# EAGLE library part HEADER_2X5 (library QFN32)
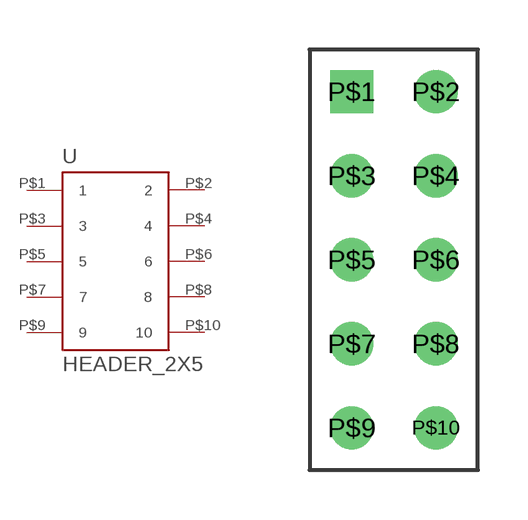
[diagram p1: symbol with the pads of HDR_2X5; footprint HDR_2X5]

Designator prefix -

## HEADER_2X5  [HDR_2X5]
P$1  1
P$2  2
P$3  3
P$4  4
P$5  5
P$6  6
P$7  7
P$8  8
P$9  9
P$10  10

## Footprint HDR_2X5 (pad centres in mm)
drill 0.8 square: P$1 -1.27,5.08
drill 0.8: P$2 1.27,5.08; P$3 -1.27,2.54; P$4 1.27,2.54; P$5 -1.27,0; P$6 1.27,0; P$7 -1.27,-2.54; P$8 1.27,-2.54; P$9 -1.27,-5.08; P$10 1.27,-5.08